# Altium footprint library CODACA_CSAB0530.PcbLib: 1 footprints
Each footprint in its own frame and in the unit in brackets; x right, y up, seen from the top. Pads: shape width x height; smd on the part's side, far side on the other; paste and mask are expansions set on the pad; w line width, h text height; cw(c..) or ccw(c..) is an arc to the next point about the centre after c.
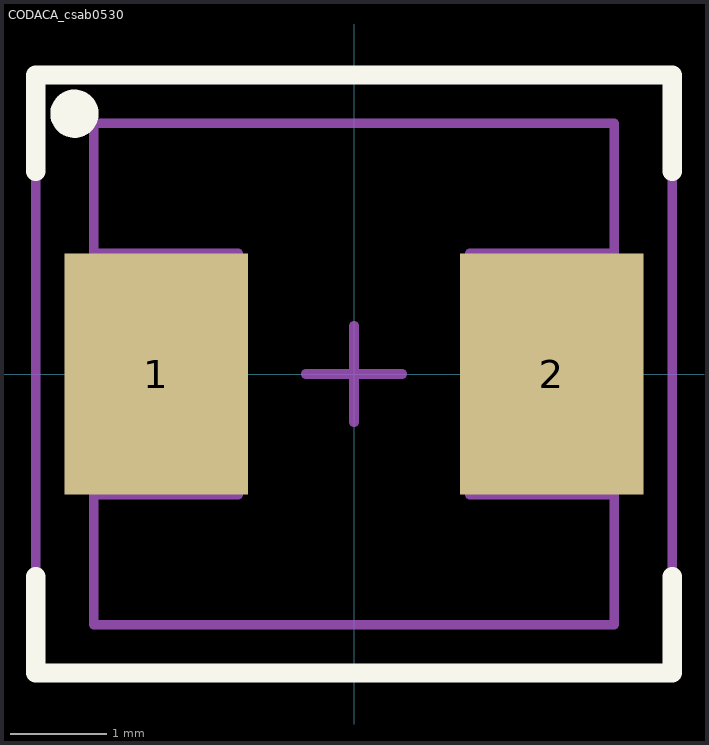
[diagram p0: the footprint, top view; thin cyan lines are the x and y axes]

## CODACA_csab0530 [mm] "Molding Power Choke, shielded, 5.4 x 5.2 x 2.8 mm"
height 2.1
pads (2):
  rect 1.9x2.5 smd: 1(-2.05,0) 2(2.05,0)
Top Overlay:
  circle w0.25: c-2.9,2.7 r0.125
  lines w0.2: -3.3,-2.1 -3.3,-3.1 3.3,-3.1 3.3,-2.1 ; -3.3,2.1 -3.3,3.1 3.3,3.1 3.3,2.1
Mechanical 13:
  lines w0.1: -2.7,-1.25 -1.2,-1.25 -1.2,1.25 -2.7,1.25 ; 2.7,-1.25 1.2,-1.25 1.2,1.25 2.7,1.25 ; -2.7,-2.6 2.7,-2.6 2.7,2.6 -2.7,2.6 -2.7,-2.6
Mechanical 15:
  lines w0.1: -3.3,-3.1 3.3,-3.1 3.3,3.1 -3.3,3.1 -3.3,-3.1
Mechanical 2 (Mech9):
  lines w0.1: -0.5,0 0.5,0 ; 0,-0.5 0,0.5
3D body: height 2.8, standoff 0.15, extent -2.6,-2.6 2.6,2.6
3D body: height 1.5, standoff 0, extent 1.5,-1.1 2.7,1.1
3D body: height 1.5, standoff 0, extent -2.7,-1.1 -1.5,1.1